# EAGLE library part HTU21D (library Cool_Electricity)
HT21D Temperature/Humidity Sensor
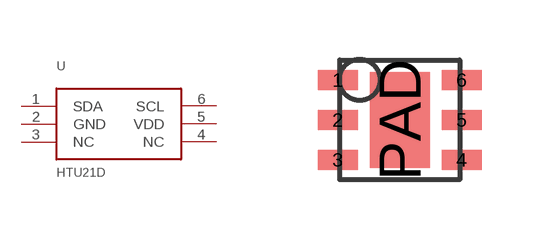
[diagram p17: symbol with the pads of HTU21D; footprint HTU21D]

Designator prefix U

## HTU21D  [HTU21D]
1  SDA
2  GND
3  NC
4  NC
5  VDD
6  SCL

## Footprint HTU21D (pad centres in mm)
smd 1 x 0.5: 1 -1.55,1; 2 -1.55,0; 3 -1.55,-1; 4 1.55,-1; 5 1.55,0; 6 1.55,1
smd 1.5 x 2.4: PAD 0,0